# Altium schematic symbol library ICM模块.SCHLIB: 8 symbols
Pins are listed as number, name and electrical type; pins without a type are passive.

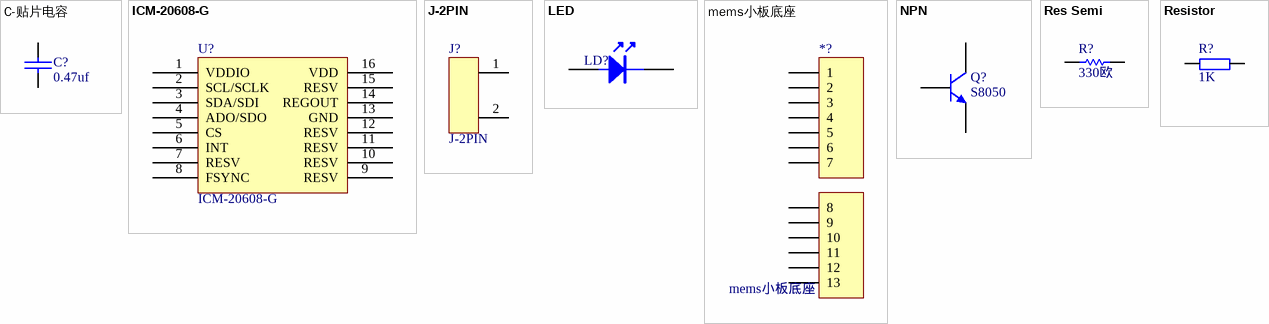
[diagram p0: symbols C-贴片电容 to Resistor]

## C-贴片电容
designator C?, comment 0.47uf
Capacitor
footprint c0603
footprint 0603C
footprint C-0603C
footprint C-0805C
pins: 1, 2

## ICM-20608-G
designator U?
footprint ICM20608-G
footprint ICM20608-G
pins: 1 VDDIO, 2 SCL/SCLK, 3 SDA/SDI, 4 ADO/SDO, 5 CS, 6 INT, 7 RESV, 8 FSYNC, 9 RESV, 10 RESV, 11 RESV, 12 RESV, 13 GND, 14 REGOUT, 15 RESV, 16 VDD

## J-2PIN
designator J?
SOCKET
footprint J-2-2.54-xh
pins: 1, 2

## LED
designator LD?
footprint LED-0805
footprint D-0603D
pins: 1, 2

## mems小板底座
designator *?
footprint mems小板底座
pins: 1, 2, 3, 4, 5, 6, 7, 8, 9, 10, 11, 12, 13

## NPN
designator Q?, comment S8050
NPN Bipolar Transistor; Published: 8-Jun-2000; LatestRevisionDate: 17-Jul-2002; LatestRevisionNote: Re-released for DXP Platform.; PackageReference: TO-226; Publisher: Altium Limited; Code_JEDEC: TO-226-AA
simulation model NPN
signal-integrity model NPN
footprint SOT-233-3
pins: 1 C, 2 B, 3 E

## Res Semi
designator R?, comment 330欧
Semiconductor Resistor; Published: 8-Jun-2000; LatestRevisionDate: 17-Jul-2002; LatestRevisionNote: Re-released for DXP Platform.; PackageReference: AXIAL-0.5; Publisher: Altium Limited; PackageDescription: Axial Device, Thru-Hole; 2 Leads; 0.5 in Pin Spacing; Value: 330欧
footprint AXIAL-0.5 (Axial Device, Thru-Hole; 2 Leads; 0.5 in Pin Spacing)
simulation model RES (Semiconductor Resistor)
signal-integrity model Res Semi
footprint 0603r
footprint 0603
footprint 0603R
footprint R-0603R
pins: 1, 2

## Resistor
designator R?, comment 1K
RES, 10K, 5%, 0.1 W, 0603
footprint R-0603R
pins: 1, 2